# EAGLE library part PCA9306_BREAKOUT (library 360prox)
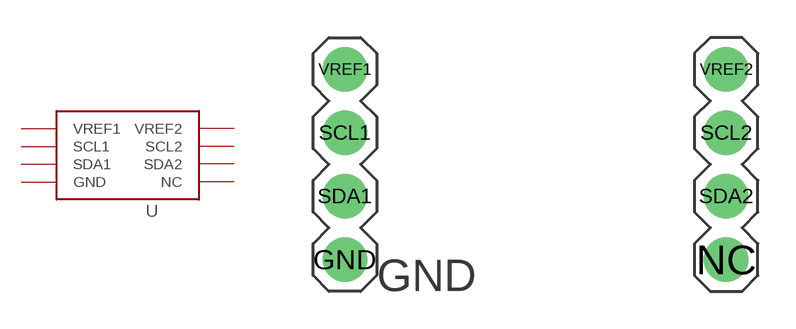
[diagram p0: symbol with the pads of PCA9306_BREAKOUT; footprint PCA9306_BREAKOUT]

Designator prefix -

## PCA9306_BREAKOUT  [PCA9306_BREAKOUT]
GND  GND
NC  NC
SCL1  SCL1
SCL2  SCL2
SDA1  SDA1
SDA2  SDA2
VREF1  VREF1
VREF2  VREF2

## Footprint PCA9306_BREAKOUT (pad centres in mm)
drill 0.8 pad 1.778: GND 1.27,1.27; NC 16.51,1.27; SCL1 1.27,6.35; SCL2 16.51,6.35; SDA1 1.27,3.81; SDA2 16.51,3.81; VREF1 1.27,8.89; VREF2 16.51,8.89